# Altium footprint library RESAD1653W69L737D229.PcbLib: 1 footprints
Each footprint in its own frame and in the unit in brackets; x right, y up, seen from the top. Pads: shape width x height; smd on the part's side, far side on the other; paste and mask are expansions set on the pad; w line width, h text height; cw(c..) or ccw(c..) is an arc to the next point about the centre after c.
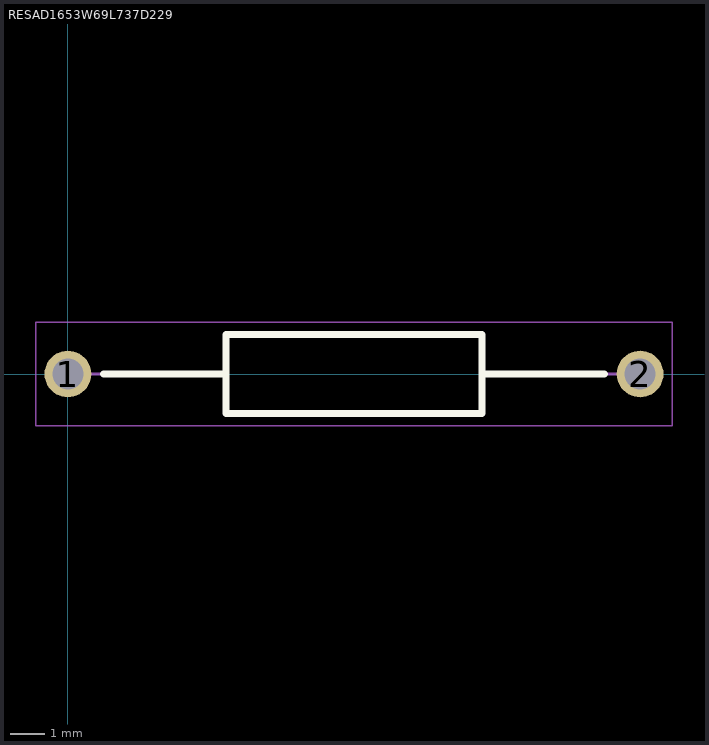
[diagram p0: the footprint, top view; thin cyan lines are the x and y axes]

## RESAD1653W69L737D229 [mm]
pads (2):
  round 1.35 hole 0.9: 1(0,0) 2(16.5,0)
Top Overlay:
  lines w0.2: 1.025,0 4.565,0 ; 11.935,0 15.475,0 ; 4.565,-1.145 11.935,-1.145 11.935,1.145 4.565,1.145 4.565,-1.145
Mechanical 15:
  lines w0.1: 0,0 4.565,0 ; 11.935,0 16.5,0 ; 4.565,-1.145 11.935,-1.145 11.935,1.145 4.565,1.145 4.565,-1.145
Mechanical 20:
  lines w0.05: -0.925,-1.495 17.425,-1.495 17.425,1.495 -0.925,1.495 -0.925,-1.495